# EAGLE library part NUF2101MT1G (library ATSAME51G19A_CAN_BREAKOUT)
ON Semiconductor ESD Protection Diode 3.1mm Length,, 5.25 V, 225 mW Source: Datasheet <https://componentsearchengine.com/Datasheets/2/NUF2101MT1G.pdf>
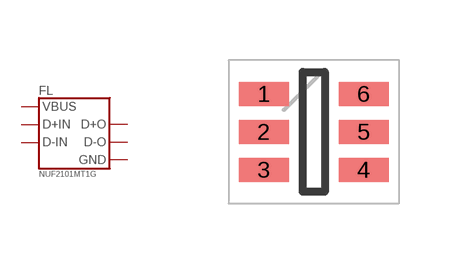
[diagram p4: symbol with the pads of SOT95P275X110-6N; footprint SOT95P275X110-6N]

Designator prefix FL

## NUF2101MT1G (ARROW_PART_NUMBER: NUF2101MT1G; ARROW_PRICE-STOCK: https://www.arrow.com/en/products/nuf2101mt1g/on-semiconductor; DESCRIPTION: ON Semiconductor ESD Protection Diode 3.1mm Length,, 5.25 V, 225 mW; HEIGHT: 1.1mm; MANUFACTURER_NAME: ON Semiconductor; MANUFACTURER_PART_NUMBER: NUF2101MT1G; MOUSER_PART_NUMBER: 863-NUF2101MT1G; MOUSER_PRICE-STOCK: https://www.mouser.co.uk/ProductDetail/ON-Semiconductor/NUF2101MT1G?qs=ZXBb0xZ9WeCMS4KEHrDDVQ%3D%3D)  [SOT95P275X110-6N]
1  D+_O  out
2  GND  pwr
3  D-_O  out
4  D-_I  in
5  VBUS  pwr
6  D+I  in

## Footprint SOT95P275X110-6N (pad centres in mm)
TSOP-6 CASE318G-02
smd 1.25 x 0.6: 1 -1.25,0.95; 2 -1.25,0; 3 -1.25,-0.95; 4 1.25,-0.95; 5 1.25,0; 6 1.25,0.95